# Altium schematic symbol library WaterSupplyController.SCHLIB: 57 symbols
Pins are listed as number, name and electrical type; pins without a type are passive.

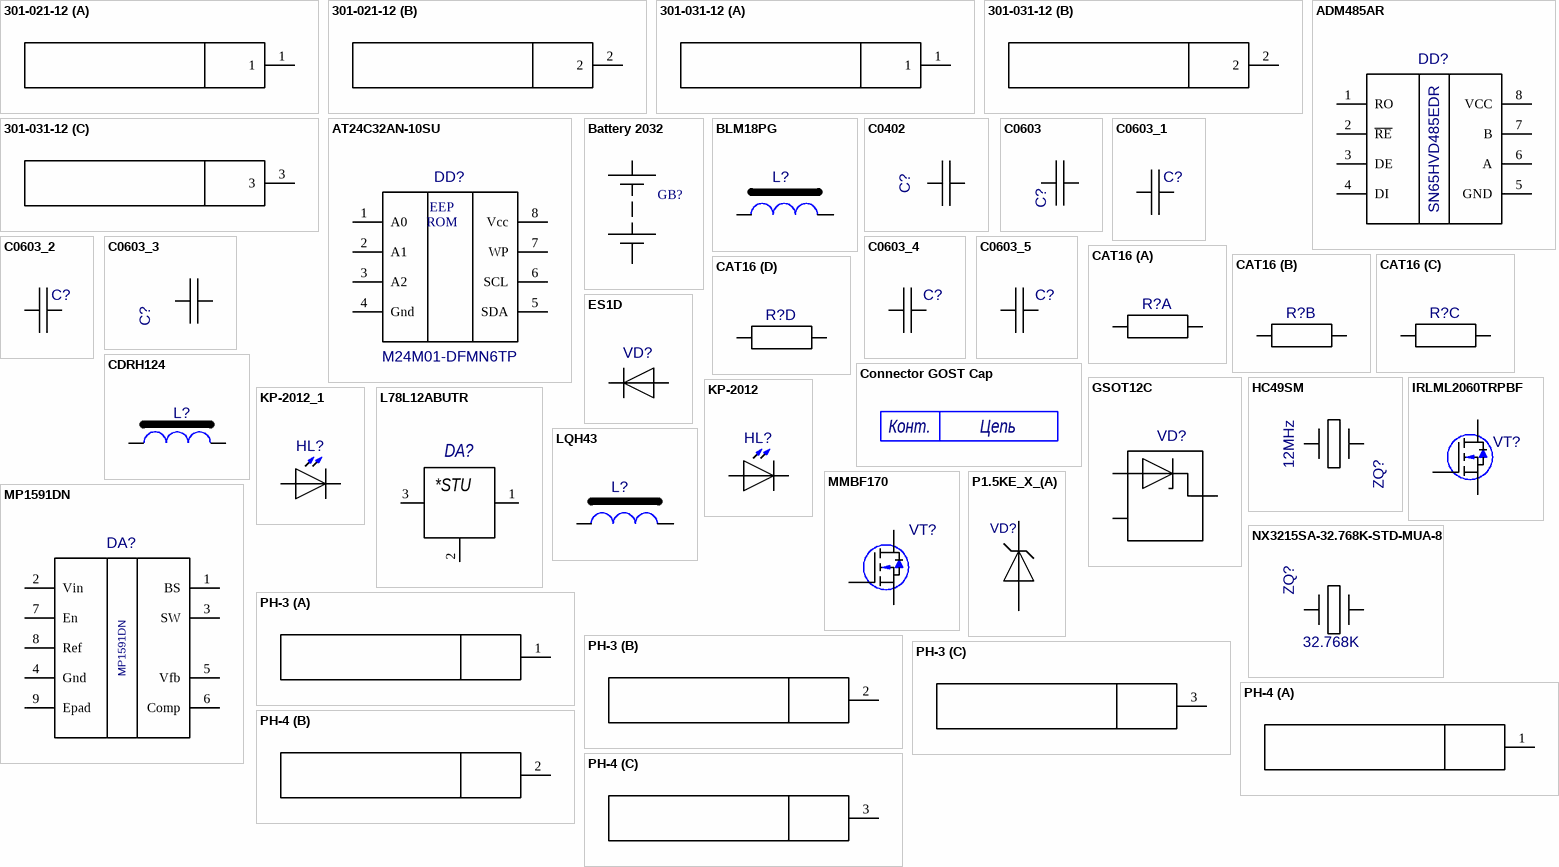
[diagram p0: symbols 301-021-12 to PH-4]

## 301-021-12
designator XT?, comment XY301VA-5.0-2P-12  (value not drawn)
Клеммник винтовой, 2-контактный, 5мм, прямой; Value: XY301VA-5.0-2P-12
footprint 301-021-12 (XY301VA-5.0-2P-12, Клеммник винтовой, 2-контактный, 5мм, прямой)
part A pins: 1
part B pins: 2

## 301-031-12
designator XT?, comment XY301VA-5.0-3P-12  (value not drawn)
Клеммник винтовой, 3-контактный, 5мм, прямой; Value: XY301VA-5.0-3P-12
footprint 301-031-12 (XY301VA-5.0-3P-12, Клеммник винтовой, 3-контактный, 5мм, прямой)
footprint 301-031-12 (XY301VA-5.0-3P-12, Клеммник винтовой, 3-контактный, 5мм, прямой)
part A pins: 1
part B pins: 2
part C pins: 3

## ADM485AR
designator DD?  value SN65HVD485EDR  (hidden comment: ADM485AR)
footprint SO8
pins: 1 RO, 2 ~{RE}, 3 DE, 4 DI, 5 GND, 6 A, 7 B, 8 VCC

## AT24C32AN-10SU
designator DD?, comment M24M01-DFMN6TP
Two-wire / Serial EEPROM / 32K (4096 x 8); Value: M24M01-DFMN6TP
footprint SO8
pins: 1 A0, 2 A1, 3 A2, 4 Gnd, 5 SDA, 6 SCL, 7 WP, 8 Vcc
text: EEP; ROM

## Battery 2032
designator GB?, comment KLS5-CR2032-03 + Battery CR2032  (value not drawn)
BOM: CR2032P; Voltage: 3V; Part Number: KLS5-CR2032-03 + Battery CR2032; Footprint Patch: connector.pcblib; ComponentLink1Description: Datasheet; Manufacturer: *; Manufacturer Part Number: *; Category: Battery; Value: KLS5-CR2032-03
footprint CR2032P
pins: 1 +, 2 -
1 alternate drawing of the same symbol

## BLM18PG
designator L?  (value not drawn)
Value: 470R BLM18PG471SN1D
footprint 0603_BLM18 (Ферритовый фильтр 0603(1608))
pins: 1, 2

## C0402
designator C?  (value not drawn)
Value: µ10x10V X7R
footprint 0402_CAP (Конденсатор 0402(1005))
pins: 1, 2

## C0603
designator C?  (value not drawn)
Value: µ10x50V X7R
footprint 0603_CAP (Конденсатор 0603(1608))
pins: 1, 2

## C0603_1
designator C?, comment C0603  (value not drawn)
Value: 10nFx50V X7R
footprint 0603_CAP (Конденсатор 0603(1608))
pins: 1, 2

## C0603_2
designator C?, comment C0603  (value not drawn)
Value: 1n8x50V X7R
footprint 0603_CAP (Конденсатор 0603(1608))
pins: 1, 2

## C0603_3
designator C?, comment C0603  (value not drawn)
Value: 2µ2x10V X7R
footprint 0603_CAP (Конденсатор 0603(1608))
pins: 1, 2

## C0603_4
designator C?, comment 22pF  (value not drawn)
C0603; Value: 22pFx50V NP0
footprint 0603_CAP (Конденсатор 0603(1608))
pins: 1, 2

## C0603_5
designator C?, comment 18pF  (value not drawn)
C0603; Value: 18pFx50V NP0
footprint 0603_CAP (Конденсатор 0603(1608))
pins: 1, 2

## CAT16
designator R?, comment 4k7 CAT16-472J4  (value not drawn)
CAT16-472J4; Value: 4k7 CAT16-472J4
footprint CAT16
part A pins: 1, 2
part B pins: 3 1, 4 2
part C pins: 5 1, 6 2
part D pins: 7 1, 8 2

## CDRH124
designator L?, comment 22µH CDRH124NP-220MC  (value not drawn)
CDRH124; Value: 22µH CDRH124NP-220MC
footprint CDRH124
pins: 1, 2

## Connector GOST Cap
designator ??, comment Con-GOST-Cap  (value not drawn)  (graphical)
Шапка разъёма ГОСТ; Value: Connector GOST Cap; ID: 65; Connector Type: Male; Surface Finish: Gold; Pitch: 2.54mm; Published: 08.04.2020; Type: Шапка разъёма ГОСТ; Part Number: Connector GOST Cap
text: Конт.; Цепь

## ES1D
designator VD?  (value not drawn)
Value: ES1D
footprint SMA
pins: 1 A, 2 K

## GSOT12C
designator VD?, comment GSOT12-E3-08  (value not drawn)
Single-line ESD protection device / ± 30 kV contact discharge / ± 30 kV air discharge; Value: GSOT12C
footprint SOT-23-(2)
pins: 1, 2, 3

## HC49SM
designator ZQ?, comment 12MHz
Value: 12MHz HC49SM
footprint HC49SM
pins: 1, 2

## IRLML2060TRPBF
designator VT?, comment AO3400A  (value not drawn)
Value: AO3400A
footprint SOT-23 MOSFET
pins: 1 G, 2 S, 3 D

## KP-2012
designator HL?, comment KP-2012SYC  (value not drawn)
Value: KP-2012SYC
footprint KP-2012_YEL (Светодиод 0805 Жёлтый)
pins: 1 A, 2 K

## KP-2012_1
designator HL?, comment KP-2012MGC  (value not drawn)
Value: KP-2012MGC
footprint KP-2012_GRN (Светодиод 0805 Зелёный)
pins: 1 A, 2 K

## L78L12ABUTR
designator DA?  (value not drawn)
ID: 19; Input Voltage: +8.5…30V; Output Current: 100mA; Output Voltage: +12V; RMS Noise: 40uV; Temperature Stability: ±4%; Line Regulation: 200mV; Value: L78L12ABUTR; Published: 13.08.2015; Publisher: Andrew Danich; Type: Микросхема; Part Number: L78L12ABUTR
footprint SOT-89
pins: 1 Out (power), 2 GND (power), 3 In (power)
text: *STU

## LQH43
designator L?, comment 100µH LQH43CN101K  (value not drawn)
LQH43, 1812; Value: 100µH LQH43CN101K
footprint LQH43
pins: 1, 2

## MMBF170
designator VT?, comment MMBF170Q-7-F  (value not drawn)
Value: MMBF170Q-7-F
footprint SOT-23 MOSFET
pins: 1 G, 2 S, 3 D

## MP1591DN
designator DA?
Value: MP1591DN
footprint HSOP8
pins: 1 BS, 2 Vin, 3 SW, 4 Gnd, 5 Vfb, 6 Comp, 7 En, 8 Ref, 9 Epad

## NX3215SA-32.768K-STD-MUA-8
designator ZQ?  value 32.768K  (hidden comment: NX3215SA-32.768K-STD-MUA-8)
footprint 1206_NX3215SA (Кварц. резонатор 1206(3216))
pins: 1, 2

## P1.5KE_X_(A)
designator VD?, comment P1.5KE24A  (value not drawn)
Value: P1.5KE24A
footprint DO-201AD
pins: 1 A, 2 C

## PH-3
designator XP?  (value not drawn)
Value: B3B-PH-K-S(LF)(SN)
footprint PH-3
footprint PH-3
part A pins: 1
part B pins: 2
part C pins: 3

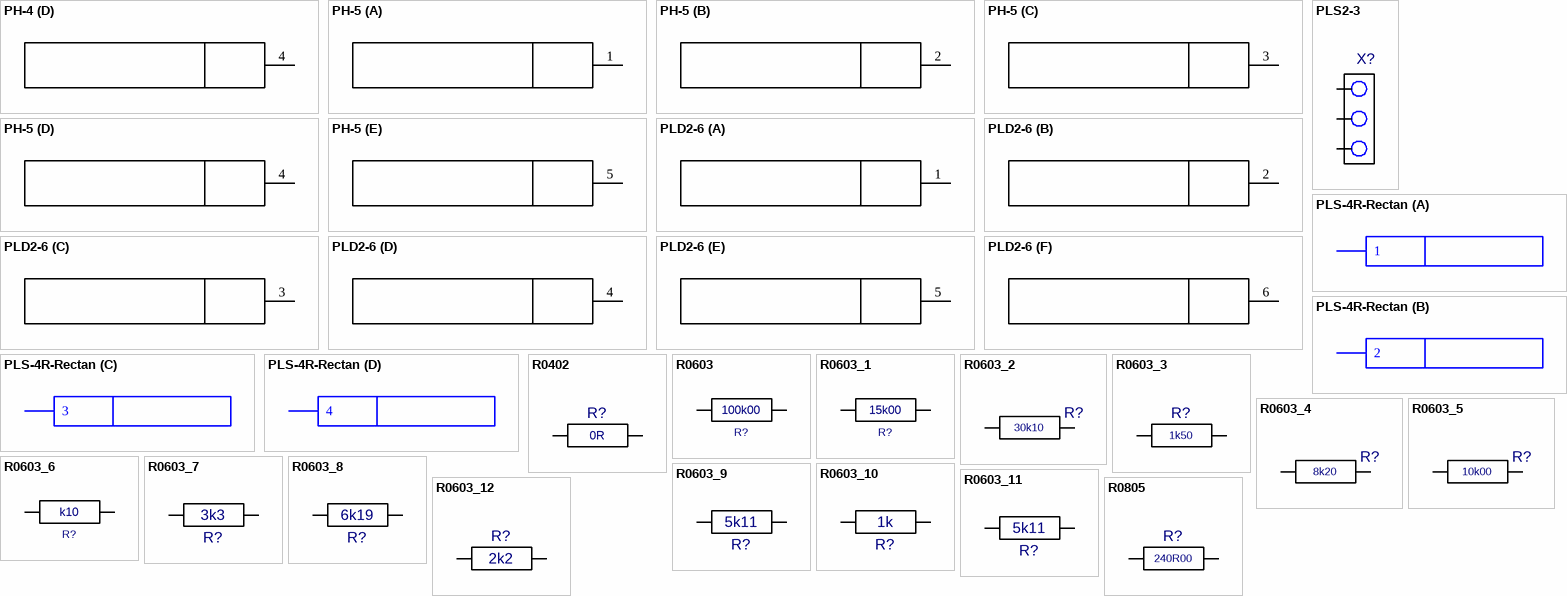
[diagram p1: symbols PH-4 to R0805]

## PH-4
designator XP?  (value not drawn)
Value: B4B-PH-K-S(LF)(SN)
footprint PH-4
part A pins: 1
part B pins: 2
part C pins: 3
part D pins: 4

## PH-5
designator XP?  (value not drawn)
Value: B5B-PH-K-S(LF)(SN)
footprint PH-5
part A pins: 1
part B pins: 2
part C pins: 3
part D pins: 4
part E pins: 5

## PLD2-6
designator XP?  (value not drawn)
Value: DS1025-05-2*3P8BV1-B
footprint PLD2-6
part A pins: 1
part B pins: 2
part C pins: 3
part D pins: 4
part E pins: 5
part F pins: 6

## PLS2-3
designator X?, comment DS1025-01-1*3 P8BV1  (value not drawn)
PLS2-3; Value: DS1025-01-1*3 P8BV1
footprint PLS2-3
pins: 1, 2, 3

## PLS-4R-Rectan
designator XP?, comment DS1022-1*4RDF11-B  (value not drawn)
Part Number: PLS-4R-Rectan; ID: 70; Limit Voltage: 250V; Limit Current: 3A; Connector Type: Male; Resistance: 15momh; Surface Finish: Gold; Pitch: 2.54mm; Value: DS1022-1*4RDF11-B; Published: 08.04.2020; Type: Краевые контакты печатным способом; Pins: 4
footprint PLS-4RR
footprint PLS-4RL
part A pins: 1
part B pins: 2
part C pins: 3
part D pins: 4

## R0402
designator R?, comment 0R
R0402; Value: 0R
footprint 0402_RES (Резистор 0402(1005))
pins: 1, 2

## R0603
designator R?, comment 100k00
R0603; Value: 100k00
footprint 0603_RES (Резистор 0603(1608))
pins: 1, 2

## R0603_1
designator R?, comment 15k00
R0603; Value: 15k00
footprint 0603_RES (Резистор 0603(1608))
pins: 1, 2

## R0603_2
designator R?, comment value 30k10  (hidden comment: R0603)
footprint 0603_RES (Резистор 0603(1608))
pins: 1, 2

## R0603_3
designator R?, comment value 1k50  (hidden comment: R0603)
footprint 0603_RES (Резистор 0603(1608))
pins: 1, 2

## R0603_4
designator R?, comment value 8k20  (hidden comment: R0603)
footprint 0603_RES (Резистор 0603(1608))
pins: 1, 2

## R0603_5
designator R?, comment value 10k00  (hidden comment: R0603)
footprint 0603_RES (Резистор 0603(1608))
pins: 1, 2

## R0603_6
designator R?, comment k10
R0603; Value: k10
footprint 0603_RES (Резистор 0603(1608))
pins: 1, 2

## R0603_7
designator R?, comment value 3k3  (hidden comment: R0603)
footprint 0603_RES (Резистор 0603(1608))
pins: 1, 2

## R0603_8
designator R?, comment value 6k19  (hidden comment: R0603)
footprint 0603_RES (Резистор 0603(1608))
pins: 1, 2

## R0603_9
designator R?, comment value 5k11  (hidden comment: R0603)
footprint 0603_RES (Резистор 0603(1608))
pins: 1, 2

## R0603_10
designator R?, comment value 1k  (hidden comment: R0603)
footprint 0603_RES (Резистор 0603(1608))
pins: 1, 2

## R0603_11
designator R?, comment 5k11
R0603; Value: 5k11
footprint 0603_RES (Резистор 0603(1608))
pins: 1, 2

## R0603_12
designator R?, comment 2k2
R0603; Value: 2k2
footprint 0603_RES (Резистор 0603(1608))
footprint 0603_RES (Резистор 0603(1608))
pins: 1, 2

## R0805
designator R?  value 240R00  (hidden comment: R0805)
footprint 0805_RES (Резистор 0805(2012))
pins: 1, 2

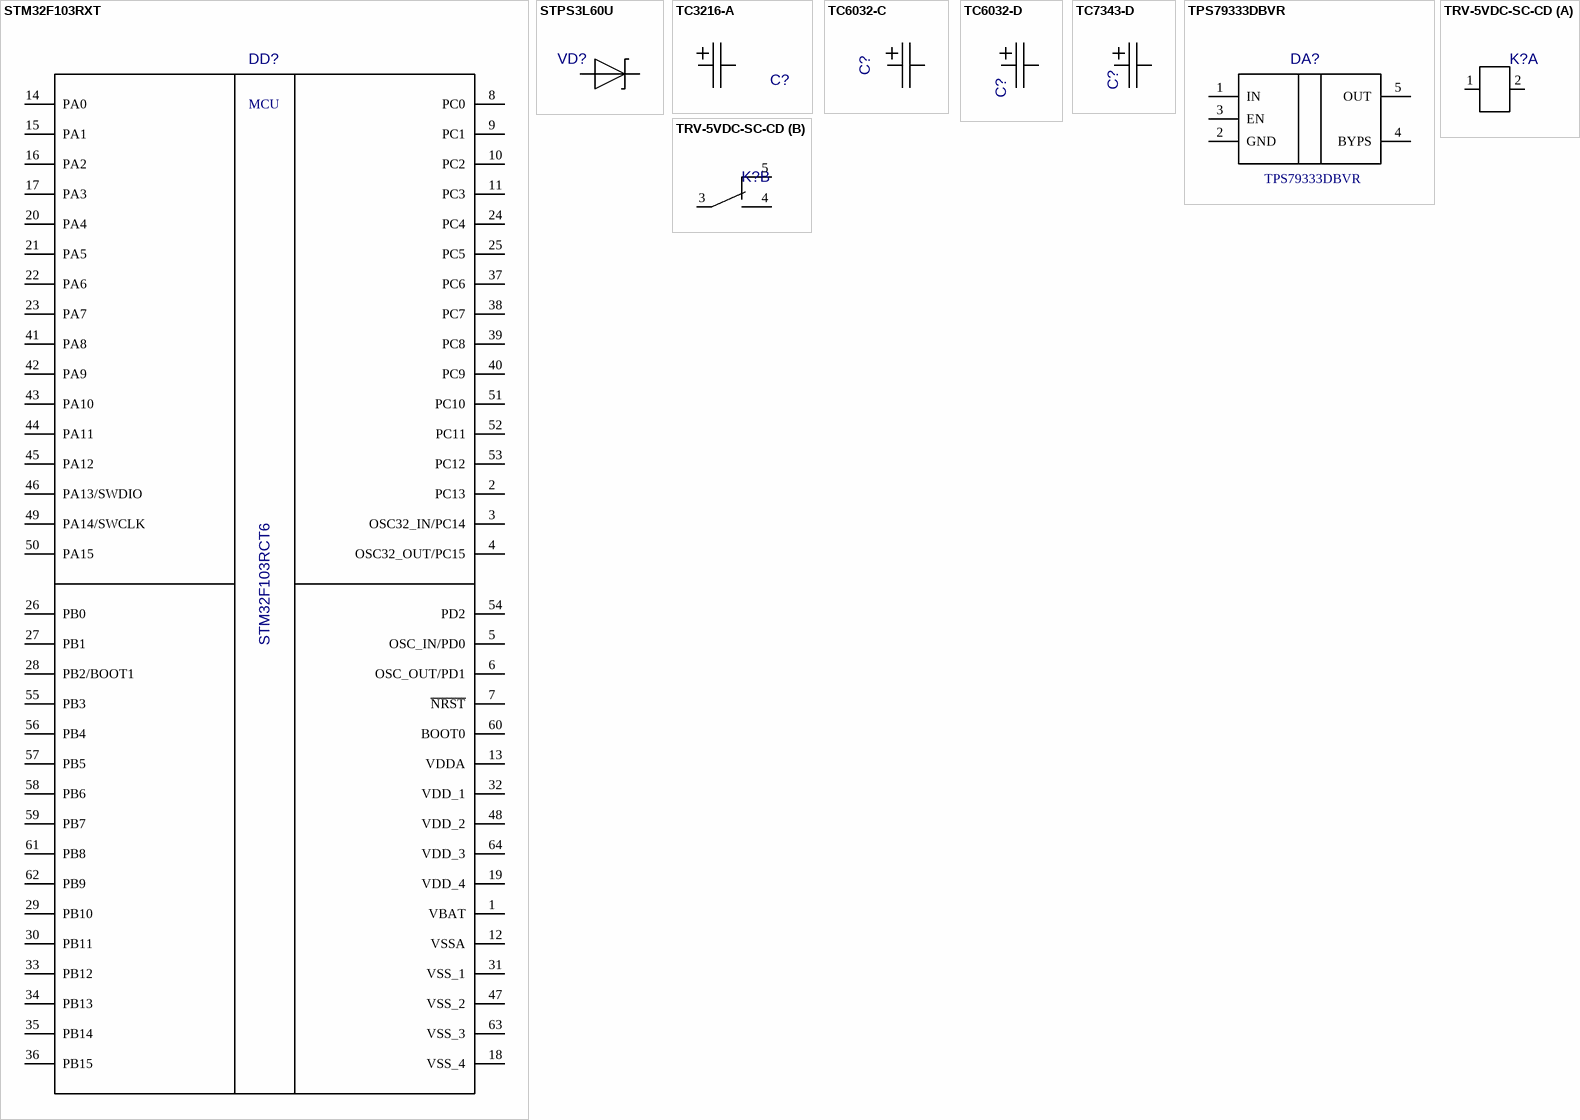
[diagram p2: symbols STM32F103RXT to TRV-5VDC-SC-CD]

## STM32F103RXT
designator DD?, comment STM32F103RCT6
Value: STM32F103RCT6
footprint LQFP64
pins: 1 VBAT, 2 PC13, 3 OSC32_IN/PC14, 4 OSC32_OUT/PC15, 5 OSC_IN/PD0, 6 OSC_OUT/PD1, 7 ~{NRST}, 8 PC0, 9 PC1, 10 PC2, 11 PC3, 12 VSSA, 13 VDDA, 14 PA0, 15 PA1, 16 PA2, 17 PA3, 18 VSS_4, 19 VDD_4, 20 PA4, 21 PA5, 22 PA6, 23 PA7, 24 PC4, 25 PC5, 26 PB0, 27 PB1, 28 PB2/BOOT1, 29 PB10, 30 PB11, 31 VSS_1, 32 VDD_1, 33 PB12, 34 PB13, 35 PB14, 36 PB15, 37 PC6, 38 PC7, 39 PC8, 40 PC9, 41 PA8, 42 PA9, 43 PA10, 44 PA11, 45 PA12, 46 PA13/SWDIO, 47 VSS_2, 48 VDD_2, 49 PA14/SWCLK, 50 PA15, 51 PC10, 52 PC11, 53 PC12, 54 PD2, 55 PB3, 56 PB4, 57 PB5, 58 PB6, 59 PB7, 60 BOOT0, 61 PB8, 62 PB9, 63 VSS_3, 64 VDD_3
text: MCU

## STPS3L60U
designator VD?  (value not drawn)
Value: STPS3L60U
footprint SMB-STPS3L60U
pins: 1 A, 2 K

## TC3216-A
designator C?, comment 10.0x16V  (value not drawn)
TC3216-A; Value: 10.0x16V
footprint TC3216-A
pins: 1, 2

## TC6032-C
designator C?, comment 220.0x6.3V  (value not drawn)
TC6032-C; Value: 220.0x6.3V
footprint TC6032-C
pins: 1, 2

## TC6032-D
designator C?, comment 22.0x35V  (value not drawn)
TC6032-D; Value: 22.0x35V
footprint TC7343-D
pins: 1, 2

## TC7343-D
designator C?, comment 100.0x16V  (value not drawn)
TC7343-D; Value: 100.0x16V
footprint TC7343-D
pins: 1, 2

## TPS79333DBVR
designator DA?
Value: TPS79333DBVR
footprint SOT23-5
pins: 1 IN, 2 GND, 3 EN, 4 BYPS, 5 OUT

## TRV-5VDC-SC-CD
designator K?  (value not drawn)
Value: TRV-5VDC-SC-CD
footprint TRV-5VDC-SC-CD
part A pins: 1, 2
part B pins: 3, 4, 5